# Altium footprint library MP008253.PcbLib: 1 footprints
Each footprint in its own frame and in the unit in brackets; x right, y up, seen from the top. Pads: shape width x height; smd on the part's side, far side on the other; paste and mask are expansions set on the pad; w line width, h text height; cw(c..) or ccw(c..) is an arc to the next point about the centre after c.
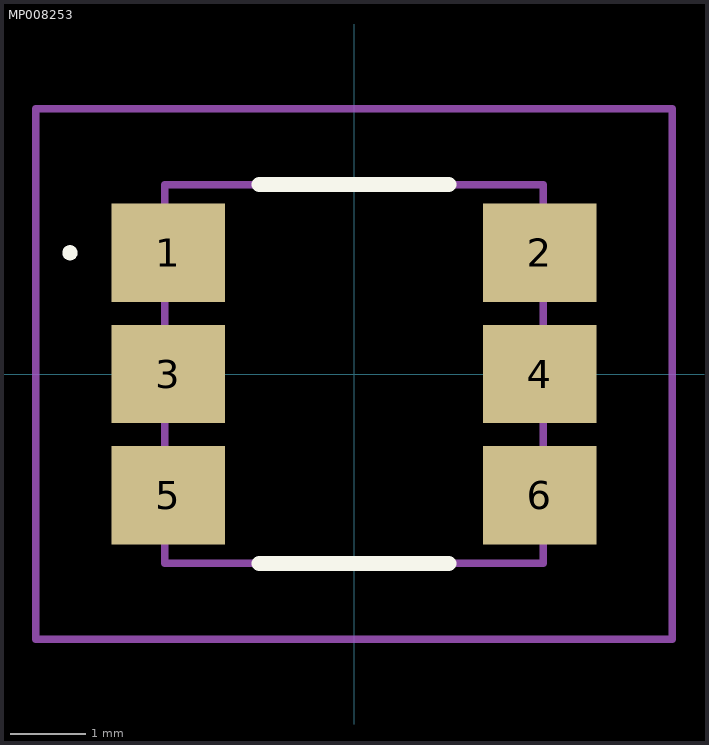
[diagram p0: the footprint, top view; thin cyan lines are the x and y axes]

## MP008253 [mm]
pads (6):
  rect 1.5x1.3 smd: 1(-2.45,1.6) 2(2.45,1.6) 3(-2.45,0) 4(2.45,0) 5(-2.45,-1.6) 6(2.45,-1.6)
Top Overlay:
  lines w0.1: -3.8,1.6 -3.8,1.6 ; -3.8,1.6 ccw(c-3.75,1.6) -3.7,1.6 ; -3.8,1.6 cw(c-3.75,1.6) -3.7,1.6 ; -3.7,1.6 -3.7,1.6
  lines w0.2: -1.25,-2.5 1.25,-2.5 ; -1.25,2.5 1.25,2.5
Mechanical 15:
  lines w0.1: -2.5,-2.5 2.5,-2.5 2.5,2.5 -2.5,2.5 -2.5,-2.5
Mechanical 20:
  lines w0.1: -4.2,-3.5 4.2,-3.5 4.2,3.5 -4.2,3.5 -4.2,-3.5